# EAGLE library part ITG-3200 (library SparkFun-Sensors)
Invensense ITG-3200 3-Axis Gyroscope The ITG-3200 is the world’s first single-chip, digital-output, 3-axis MEMS motion processing gyro optimized for gaming, 3D mice, and motion-based remote control applications for Internet connected Digital TVs and Set Top Boxes. The ITG-3200 features three 16-bit analog-to-digital converters (ADCs) for digitizing the gyro outputs, a user-selectable internal low-pass filter bandwidth, and a Fast-Mode I²C (400kHz) interface. Additional features include an embedded temperature sensor and a 2% accurate internal oscillator. This breakthrough in MEMS motion processing gyro technology provides a dramatic 60% package size reduction, delivers a 60% power reduction, and has inherent cost advantages compared to competing multi-chip gyro solutions. Datasheet <https://www.sparkfun.com/datasheets/Sensors/Gyro/PS-ITG-3200-00-01.4.pdf> SparkFun Products Triple-Axis Digital-Output Gyroscope - ITG-3200 <https://www.sparkfun.com/products/9793> (SEN-09793) SparkFun Triple-Axis Digital-Output Gyro Breakout - ITG-3200 <https://www.sparkfun.com/products/11977> (SEN-11977) SparkFun 9 Degrees of Freedom - Sensor Stick <https://www.sparkfun.com/products/10724> (SEN-10724) SparkFun 6 Degrees of Freedom IMU Digital Combo Board - ITG3200/ADXL345 <https://www.sparkfun.com/products/10121> (SEN-10121) 9 Degrees of Freedom - Razor IMU <https://www.sparkfun.com/products/10736> (SEN-10736)
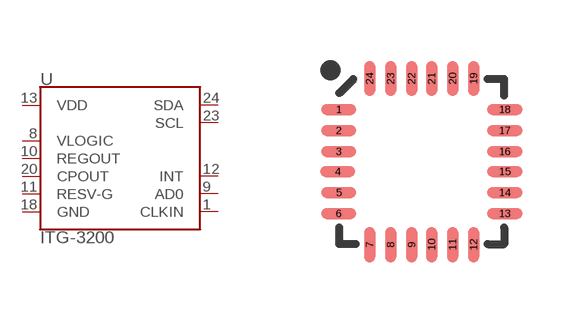
[diagram p23: symbol with the pads of QFN-24; footprint QFN-24]

Designator prefix U

## ITG-3200 (PROD_ID: IC-09685; SF_ID: SEN-09793)  [QFN-24]
1  CLKIN
8  VLOGIC
9  AD0
10  REGOUT
11  RESV-G
12  INT
13  VDD
18  GND
20  CPOUT
23  SCL
24  SDA

## Footprint QFN-24 (pad centres in mm)
24-Pin QFN (4 x 4 mm) (1:1 footprint) Datasheet <http://43zrtwysvxb2gf29r5o0athu.wpengine.netdna-cdn.com/wp-content/uploads/2015/02/ITG-3200-Datasheet.pdf> Specifications: Pin Count: 24 Area: 4.0 x 4.0 x 0.9 mm Pitch: 0.5 mm Devices Using: ITG-3200
smd 0.889 x 0.279: 1 -2.076,1.301; 2 -2.076,0.775; 3 -2.076,0.25; 4 -2.102,-0.25; 5 -2.076,-0.775; 6 -2.076,-1.301; 13 2.076,-1.301; 14 2.076,-0.775; 15 2.076,-0.25; 16 2.076,0.25; 17 2.076,0.775; 18 2.076,1.301
smd 0.279 x 0.889: 7 -1.301,-2.076; 8 -0.775,-2.076; 9 -0.25,-2.076; 10 0.25,-2.076; 11 0.775,-2.076; 12 1.301,-2.076; 19 1.301,2.076; 20 0.775,2.076; 21 0.25,2.076; 22 -0.25,2.076; 23 -0.775,2.076; 24 -1.301,2.076